# Altium footprint library INDRL181S.PcbLib: 1 footprints
Each footprint in its own frame and in the unit in brackets; x right, y up, seen from the top. Pads: shape width x height; smd on the part's side, far side on the other; paste and mask are expansions set on the pad; w line width, h text height; cw(c..) or ccw(c..) is an arc to the next point about the centre after c.
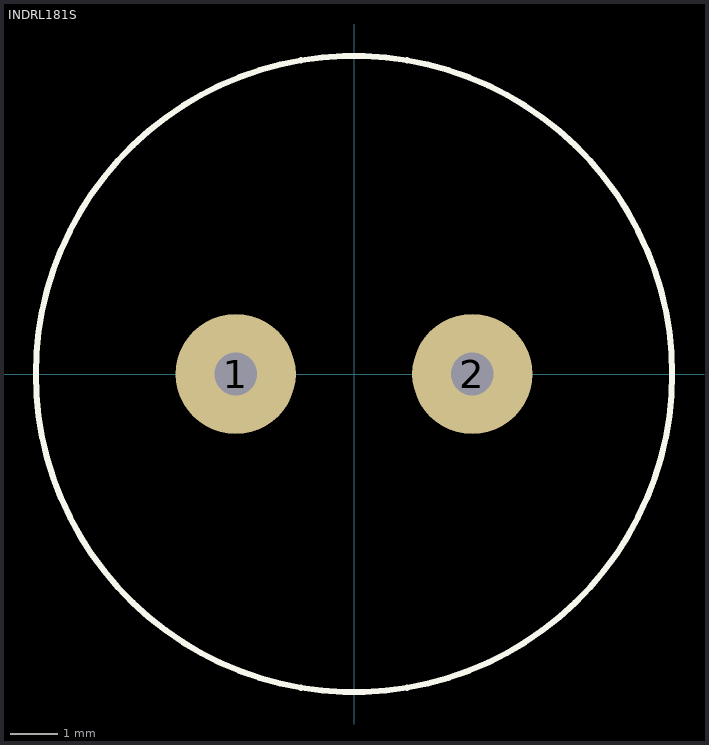
[diagram p0: the footprint, top view; thin cyan lines are the x and y axes]

## INDRL181S [mil]
pads (2):
  round 100 hole 35.43: 1(-98.5,0) 2(98.5,0)
Top Overlay:
  circle w5: c0,0 r265
Mechanical 13:
  text "VALUE" at 0,-375 h70
3D body "step_temp.STEP": height 551.18, standoff -196.85, extent -206.69,-206.69 206.69,206.69